# Altium schematic symbol library CC1101RGPR.SchLib: 1 symbol
Pins are listed as number, name and electrical type; pins without a type are passive.

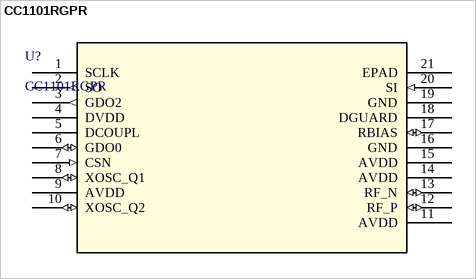
[diagram p0: symbol CC1101RGPR]

## CC1101RGPR
designator U?
Low-power Sub-1 GHz wireless transceiver 20-QFN -40 to 85; Manufacturer_Name: Texas Instruments; Copyright: Copyright (C) 2026 Ultra Librarian. All rights reserved.; Manufacturer_Part_Number: CC1101RGPR; RefDes: RefDes; Type: Type
footprint RGP20_2P4X2P4
pins: 1 SCLK, 2 SO (out), 3 GDO2 (out), 4 DVDD (power), 5 DCOUPL (power), 6 GDO0 (io), 7 CSN (in), 8 XOSC_Q1 (io), 9 AVDD (power), 10 XOSC_Q2 (io), 11 AVDD (power), 12 RF_P (io), 13 RF_N (io), 14 AVDD (power), 15 AVDD (power), 16 GND (power), 17 RBIAS (io), 18 DGUARD (power), 19 GND (power), 20 SI (in), 21 EPAD (power)